# EAGLE library part NRF52832-CIAA-R (library NRF52832-CIAA-R)
Multi Protocal Bluetooth Smart ANT 2.4GHz RF SoC (WL-CSP)
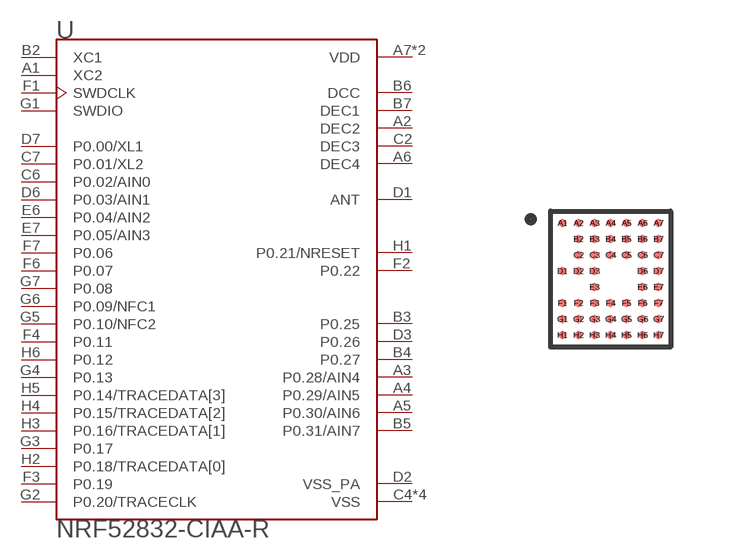
[diagram p0: symbol with the pads of BGA50N40P7X8_300X320X40; footprint BGA50N40P7X8_300X320X40]

Designator prefix U

## NRF52832-CIAA-R (AVAILABILITY: Good; DESCRIPTION: IC RF TXRX+MCU BLUETOOTH 50WLCSP; MF: Nordic; MP: NRF52832-CIAA-R; PACKAGE: XFBGA-50 Nordic Semiconductor; PRICE: 3.87 USD)  [BGA50N40P7X8_300X320X40]
A1  XC2  in
A2  DEC2  pwr
A3  P0.28/AIN4
A4  P0.29/AIN5
A5  P0.30/AIN6
A6  DEC4  pwr
A7  VDD  pwr
B2  XC1  in
B3  P0.25
B4  P0.27
B5  P0.31/AIN7
B6  DCC  pwr
B7  DEC1  pwr
C2  DEC3  pwr
C4  VSS  pwr
C5  VSS  pwr
C6  P0.02/AIN0
C7  P0.01/XL2
D1  ANT  pas
D2  VSS_PA  pwr
D3  P0.26
D6  P0.03/AIN1
D7  P0.00/XL1
E3  VSS  pwr
E6  P0.04/AIN2
E7  P0.05/AIN3
F1  SWDCLK  in
F2  P0.22
F3  P0.19
F4  P0.11
F5  VSS  pwr
F6  P0.07
F7  P0.06
G1  SWDIO
G2  P0.20/TRACECLK
G3  P0.17
G4  P0.13
G5  P0.10/NFC2
G6  P0.09/NFC1
G7  P0.08
H1  P0.21/NRESET
H2  P0.18/TRACEDATA[0]
H3  P0.16/TRACEDATA[1]
H4  P0.15/TRACEDATA[2]
H5  P0.14/TRACEDATA[3]
H6  P0.12
H7  VDD  pwr

## Footprint BGA50N40P7X8_300X320X40 (pad centres in mm)
smd 0.2 x 0.2: A1 -1.2,1.4; A2 -0.8,1.4; A3 -0.4,1.4; A4 0,1.4; A5 0.4,1.4; A6 0.8,1.4; A7 1.2,1.4; B2 -0.8,1; B3 -0.4,1; B4 0,1; B5 0.4,1; B6 0.8,1; B7 1.2,1; C2 -0.8,0.6; C3 -0.4,0.6; C4 0,0.6; C5 0.4,0.6; C6 0.8,0.6; C7 1.2,0.6; D1 -1.2,0.2; D2 -0.8,0.2; D3 -0.4,0.2; D6 0.8,0.2; D7 1.2,0.2; E3 -0.4,-0.2; E6 0.8,-0.2; E7 1.2,-0.2; F1 -1.2,-0.6; F2 -0.8,-0.6; F3 -0.4,-0.6; F4 0,-0.6; F5 0.4,-0.6; F6 0.8,-0.6; F7 1.2,-0.6; G1 -1.2,-1; G2 -0.8,-1; G3 -0.4,-1; G4 0,-1; G5 0.4,-1; G6 0.8,-1; G7 1.2,-1; H1 -1.2,-1.4; H2 -0.8,-1.4; H3 -0.4,-1.4; H4 0,-1.4; H5 0.4,-1.4; H6 0.8,-1.4; H7 1.2,-1.4